# Altium schematic symbol library 4x1(5mm).SchLib: 1 symbol
Pins are listed as number, name and electrical type; pins without a type are passive.

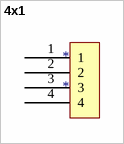
[diagram p0: symbol 4x1]

## 4x1
designator *
footprint 4x2(5mm)
pins: 1, 2, 3, 4